# Altium footprint library PCB - CAPACITOR - ALUMINIUM - CAP ALSMD ELEC 17.1MM H17MM.pcblib: 1 footprints
Each footprint in its own frame and in the unit in brackets; x right, y up, seen from the top. Pads: shape width x height; smd on the part's side, far side on the other; paste and mask are expansions set on the pad; w line width, h text height; cw(c..) or ccw(c..) is an arc to the next point about the centre after c.
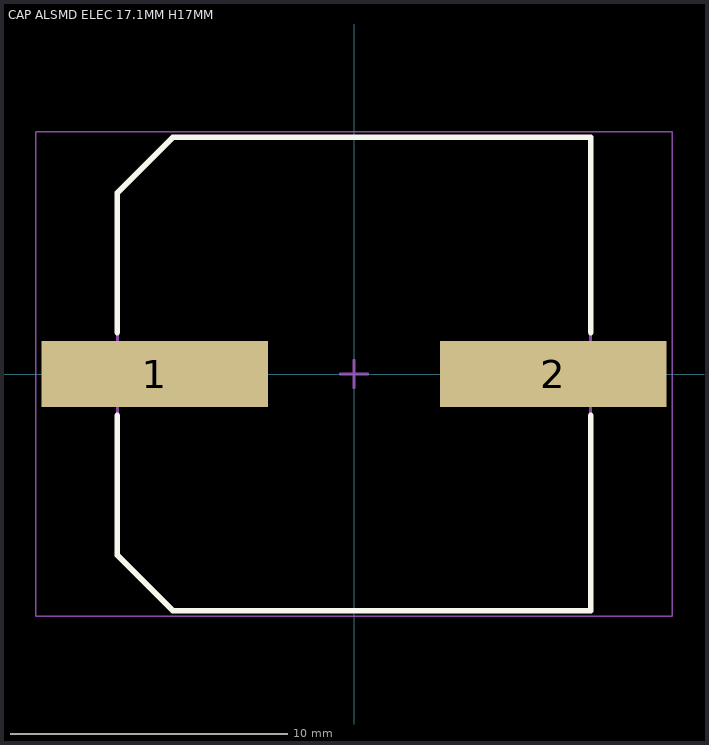
[diagram p0: the footprint, top view; thin cyan lines are the x and y axes]

## CAP ALSMD ELEC 17.1MM H17MM [mm] "Aluminum SMD Electrolytic Capacitor, 17.10mm Land Size, 16.00mm Diameter, 17.00mm Height, 18.30mm Maximum Leads Span"
height 1.2
pads (2):
  rect 8.2x2.4 smd: 1(-7.2,0) 2(7.2,0)
Top Overlay:
  lines w0.2: -8.55,-1.5 -8.55,-6.55 -6.55,-8.55 8.55,-8.55 8.55,-1.5 ; -8.55,1.5 -8.55,6.55 -6.55,8.55 8.55,8.55 8.55,1.5
Mechanical 13:
  lines w0.1: -8.55,-6.55 -8.55,6.55 -6.55,8.55 8.55,8.55 8.55,-8.55 -6.55,-8.55 -8.55,-6.55
Mechanical 15:
  lines w0.05: -11.5,-8.75 -11.5,8.75 11.5,8.75 11.5,-8.75 -11.5,-8.75
  lines w0.1: -0.5,0 0.5,0 ; 0,-0.5 0,0.5
3D body: height 17, standoff 0, extent -9.15,-8.55 9.15,8.55